# Altium schematic symbol library PowerSupply.SchLib: 41 symbols
Pins are listed as number, name and electrical type; pins without a type are passive.

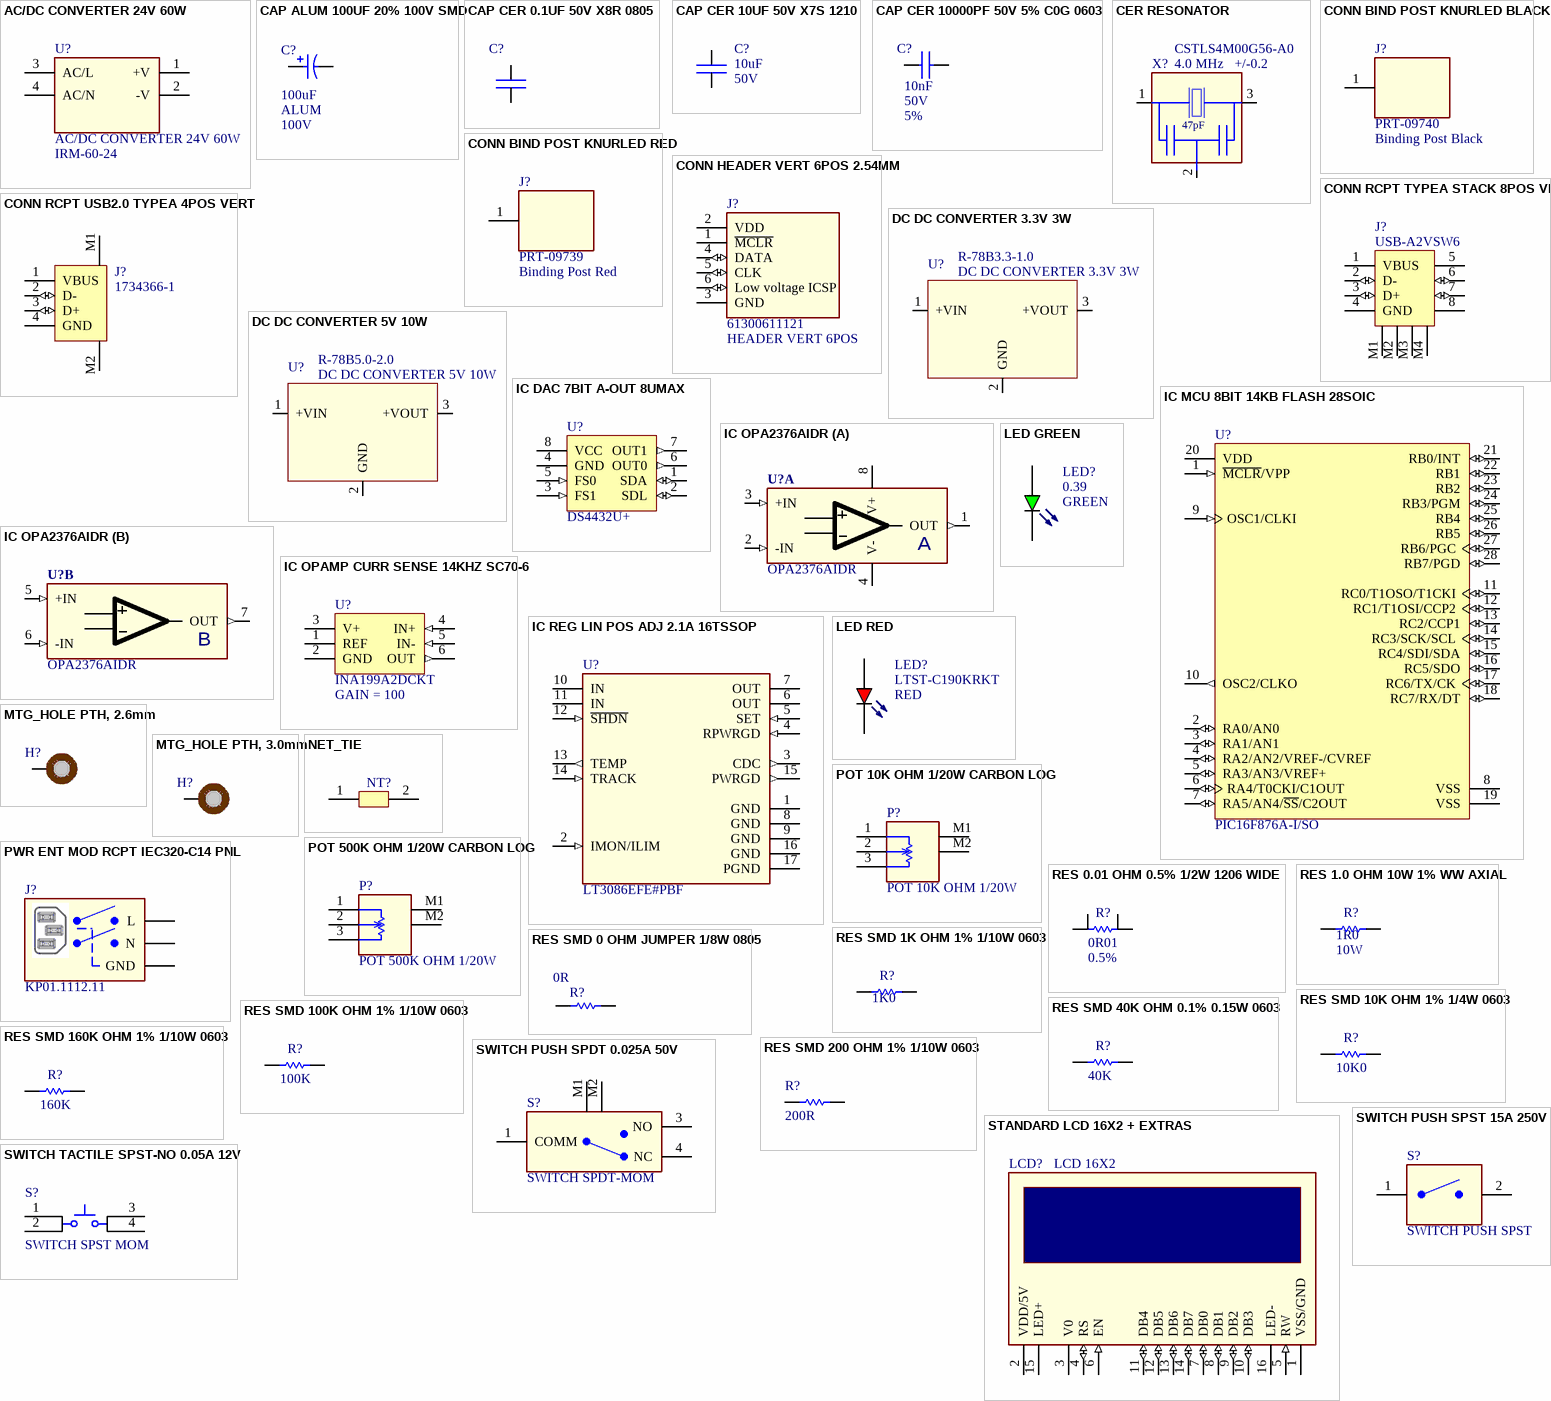
[diagram p0: symbols AC/DC CONVERTER 24V 60W to SWITCH TACTILE SPST-NO 0.05A 12V]

## AC/DC CONVERTER 24V 60W
designator U?  value AC/DC CONVERTER 24V 60W  MFG_PART_NO: IRM-60-24
AC/DC CONVERTER 24V 60W; MFG: MEAN WELL USA Inc.; COST: 24.76
footprint IRM6024
pins: 1 +V (power), 2 -V (power), 3 AC/L (power), 4 AC/N (power)

## CAP ALUM 100UF 20% 100V SMD
designator C?  value 100uF  DIELECTRIC: ALUM  VOLTAGE: 100V
CAP ALUM 100UF 20% 100V SMD; MFG_PART_NO: EMVY101ARA101MKE0S; MFG: United Chemi-Con; COST: 2.51; TOLERANCE: 20%
footprint CAPAE1300X1400N (Capacitor,Aluminum Electrolytic;13.00mm L X 13.00mm W X 14.00mm H)
pins: 1, 2

## CAP CER 0.1UF 50V X8R 0805
designator C?
CAP CER 0.1UF 50V X8R 0805; MFG_PART_NO: C2012X8R1H104K125AA; MFG: TDK; COST: 0.32; VALUE: 0.1uF; VOLTAGE: 50V
footprint 0805 Capacitor (Chip Capacitor, 2-Leads, Body 2.00x1.25mm, IPC Medium Density)
footprint CAPC2012X14N
pins: 1, 2

## CAP CER 10UF 50V X7S 1210
designator C?  value 10uF  VOLTAGE: 50V
CAP CER 10UF 50V X7S 1210; MFG_PART_NO: UMK325C7106MM-T; MFG: Taiyo Yuden; TOLERANCE: 20%; COST: 1.14; DIELECTRIC: X7S
footprint CAPC3225X28N (1210, Body 3.20x2.50x2.8mm, IPC Medium Density)
pins: 1, 2

## CAP CER 10000PF 50V 5% C0G 0603
designator C?  value 10nF  TOLERANCE: 5%  VOLTAGE: 50V
CAP CER 10000PF 50V 5% C0G 0603; MFG_PART_NO: GRM1885C1H103JA01D; MFG: Murata; DIELECTRIC: C0G/NP0; COST: 0.3
footprint CAPC1608X09N (0603, Body 1.6x0.8x0.94mm, IPC Medium Density)
pins: 1, 2

## CER RESONATOR
designator X?  value 4.0 MHz  MFG_PART_NO: CSTLS4M00G56-A0  STABILITY: +/-0.2
CER RESONATOR; TOLERANCE: +/-0.5; COST: 0.34; MFG: CER RESONATOR
footprint CSTLS4M00G56-A0
pins: 1, 2, 3
text: 47pF

## CONN BIND POST KNURLED BLACK
designator J?  value Binding Post Black  MFG_PART_NO: PRT-09740
CONN BIND POST KNURLED BLACK; MFG: SparkFun Electronics; COST: 0.49
footprint PRT-09740 (Binding Post Black)
pins: 1 (power)

## CONN BIND POST KNURLED RED
designator J?  value Binding Post Red  MFG_PART_NO: PRT-09739
CONN BIND POST KNURLED RED; MFG: SparkFun Electronics; COST: 0.49
footprint PRT-09739 (Binding Post Red)
pins: 1 (power)

## CONN HEADER VERT 6POS 2.54MM
designator J?  value HEADER VERT 6POS  MFG_PART_NO: 61300611121
CONN HEADER VERT 6POS 2.54MM; MFG: Wurth Electronics Inc.; COST: 0.47
footprint 61300611121
pins: 1 ~{MCLR} (power), 2 VDD (power), 3 GND (power), 4 DATA (io), 5 CLK (io), 6 Low voltage ICSP (io)

## CONN RCPT TYPEA STACK 8POS VERT
designator J?  value USB-A2VSW6
CONN RCPT TYPEA STACK 8POS VERT; MFG: On Shore Technology Inc.; MFG_PART_NO: USB-A2VSW6; COST: 1.29
footprint USB-A2VSW6 (USB - A, Stacked Receptacle Connector 8 Position Through Hole)
pins: 1 VBUS (power), 2 D- (io), 3 D+ (io), 4 GND (power), 5 VBUS (power), 6 D- (io), 7 D+ (io), 8 GND (power), M1, M2, M3, M4

## CONN RCPT USB2.0 TYPEA 4POS VERT
designator J?  value 1734366-1
CONN RCPT USB2.0 TYPEA 4POS VERT; MFG: TE Connectivity AMP Connectors; MFG_PART_NO: 1734366-1; COST: 1.26
footprint CONN_CUI_UJ2-AV-x-SMT (USB type A; vertical,4 pin, SMT)
pins: 1 VBUS (power), 2 D- (io), 3 D+ (io), 4 GND (power), M1, M2

## DC DC CONVERTER 3.3V 3W
designator U?  value DC DC CONVERTER 3.3V 3W  MFG_PART_NO: R-78B3.3-1.0
DC DC CONVERTER 3.3V 3W; MFG: Recom Power; COST: 12.72
footprint DC_Module_TH_R-78Bxx-1.0 (Recom, DC/DC Converter, 3-pin 2.54mm pitch)
pins: 1 +VIN (power), 2 GND (power), 3 +VOUT (power)

## DC DC CONVERTER 5V 10W
designator U?  value DC DC CONVERTER 5V 10W  MFG_PART_NO: R-78B5.0-2.0
DC DC CONVERTER 5V 10W; MFG: Recom Power; COST: 12.72
footprint DC_Module_TH_R-78Bxx-1.0 (Recom, DC/DC Converter, 3-pin 2.54mm pitch)
pins: 1 +VIN (power), 2 GND (power), 3 +VOUT (power)

## IC DAC 7BIT A-OUT 8UMAX
designator U?  value DS4432U+
IC DAC 7BIT A-OUT 8UMAX; MFG: Maxim Integrated; MFG_PART_NO: DS4432U+; COST: 1.82
footprint TSOP65P490X110-8N (TSOP, 8-Leads, Body 3.00x3.00mm, Pitch 0.65mm, IPC Medium Density)
pins: 1 SDA (io), 2 SDL (io), 3 FS1 (in), 4 GND (power), 5 FS0 (in), 6 OUT0 (out), 7 OUT1 (out), 8 VCC (power)

## IC MCU 8BIT 14KB FLASH 28SOIC
designator U?, comment PIC16F876A-I/SO
IC MCU 8BIT 14KB FLASH 28SOIC; MFG: Microchip Technology; COST: 4.67; MFG_PART_NO: PIC16F876A-I/SO; PACKAGE: 28-SOIC
footprint SOIC127P1030X264-28N (SOIC, 28-Leads, Body 17.88x7.46mm, Pitch 1.27mm, IPC Medium Density)
pins: 1 ~{MCLR}/VPP (in), 2 RA0/AN0 (io), 3 RA1/AN1 (io), 4 RA2/AN2/VREF-/CVREF (io), 5 RA3/AN3/VREF+ (io), 6 RA4/T0CKI/C1OUT (io), 7 RA5/AN4/~{SS}/C2OUT (io), 8 VSS (power), 9 OSC1/CLKI (in), 10 OSC2/CLKO (out), 11 RC0/T1OSO/T1CKI (io), 12 RC1/T1OSI/CCP2 (io), 13 RC2/CCP1 (io), 14 RC3/SCK/SCL (io), 15 RC4/SDI/SDA (io), 16 RC5/SDO (io), 17 RC6/TX/CK (io), 18 RC7/RX/DT (io), 19 VSS (power), 20 VDD (power), 21 RB0/INT (io), 22 RB1 (io), 23 RB2 (io), 24 RB3/PGM (io), 25 RB4 (io), 26 RB5 (io), 27 RB6/PGC (io), 28 RB7/PGD (io)

## IC OPA2376AIDR
designator U?  value OPA2376AIDR
IC OPAMP GP 5.5MHZ RRO 8SOIC; MFG: TI; COST: 3.82; MFG_PART_NO: OPA2376AIDR
footprint SOIC127P600X175-8N_OPA2376AIDR (SOIC, 8-Leads, Body 4.90x3.90mm, Pitch 1.27mm, IPC Medium Density)
part A pins: 1 OUT (out), 2 -IN (in), 3 +IN (in), 4 V- (power), 8 V+ (power)
part B pins: 5 +IN (in), 6 -IN (in), 7 OUT (out)
part A text: A
part B text: B

## IC OPAMP CURR SENSE 14KHZ SC70-6
designator U?  value INA199A2DCKT  GAIN: GAIN = 100
IC OPAMP CURR SENSE 14KHZ SC70-6; MFG: TE Connectivity AMP Connectors; MFG_PART_NO: INA199A2DCKT; COST: 1.29
footprint TSOP65P240X110-6N (TSOP, 6-Leads, Body 2.15x1.40mm, Pitch 0.65mm, IPC Medium Density)
pins: 1 REF (power), 2 GND (power), 3 V+ (power), 4 IN+ (in), 5 IN- (in), 6 OUT (out)

## IC REG LIN POS ADJ 2.1A 16TSSOP
designator U?  value LT3086EFE#PBF
IC REG LIN POS ADJ 2.1A 16TSSOP; MFG: Linear Technology/Analog Devices; COST: 24.76; MFG_PART_NO: LT3086EFE#PBF
footprint TSOP65P640X110_HS-17N (TSOP, 16-Leads, Body 5.00x4.40mm, Pitch 0.65mm, Thermal Pad 3.58x2.94mm, IPC Medium Density)
pins: 1 GND (power), 2 IMON/ILIM (in), 3 CDC (out), 4 RPWRGD (in), 5 SET (in), 6 OUT (power), 7 OUT (power), 8 GND (power), 9 GND (power), 10 IN (power), 11 IN (power), 12 ~{SHDN} (in), 13 TEMP (out), 14 TRACK (in), 15 PWRGD (out), 16 GND (power), 17 PGND (power)

## LED GREEN
designator LED?  value GREEN  MFG_PART_NO: 0.39
LED SUPER GREEN CLEAR 0603 SMD; MFG: Lite-On; COST: 0.05
footprint LED LTST-C190KGKT
pins: A, K

## LED RED
designator LED?  value RED  MFG_PART_NO: LTST-C190KRKT
LED SUPER RED CLEAR 0603 SMD; MFG: Lite-On; COST: 0.39
footprint LED LTST-C190KRKT
pins: A, K

## MTG_HOLE PTH, 2.6mm
designator H?  (no BOM)
PTH, 2.6mm; VALUE: PTH_2.6MM
footprint MH_PTH_H2.6mmXP7.0mm (Plated Through Hole, 2.6mm hole x 7.0mm pad)
pins: 1

## MTG_HOLE PTH, 3.0mm
designator H?  (no BOM)
PTH, 3.0mm; VALUE: PTH_3.0MM
footprint MH_PTH_H3.0mmXP6.0mm (Plated Through Hole, 3.0mm hole x 6.0mm pad)
pins: 1

## NET_TIE
designator NT?  (net tie, no BOM)
Net Tie
footprint NET_TIE_1x2mm (Footprint not found)
footprint NET_TIE_5x10mil (Net Tie 2 5x5mil Pads)
pins: 1, 2

## POT 10K OHM 1/20W CARBON LOG
designator P?  value POT 10K OHM 1/20W
POT 10K OHM 1/20W CARBON LOG; MFG_PART_NO: PTV09A-4020F-A103; MFG: Bourns Inc.; COST: 1.17
footprint PTV09A (POT 10K/500K)
pins: 1, 2, 3, M1 (power), M2 (power)

## POT 500K OHM 1/20W CARBON LOG
designator P?  value POT 500K OHM 1/20W
POT 500K OHM 1/20W CARBON LOG; MFG_PART_NO: PTV09A-4020F-A504; MFG: Bourns Inc.; COST: 1.17
footprint PTV09A (POT 10K/500K)
pins: 1, 2, 3, M1 (power), M2 (power)

## PWR ENT MOD RCPT IEC320-C14 PNL
designator J?  MFG_PART_NO: KP01.1112.11
PWR ENT MOD RCPT IEC320-C14 PNL; MFG: Schurter Inc.; VALUE: Power Entry Connector; COST: 21.59
footprint KP01.1112.11 (PWR ENT MOD RCPT IEC320-C14 PNL)
pins: GND (power), L (power), N (power)

## RES 0.01 OHM 0.5% 1/2W 1206 WIDE
designator R?  value 0R01  TOLERANCE: 0.5%
RES 0.01 OHM 0.5% 1/2W 1206 WIDE; MFG_PART_NO: FC4TR010DER; MFG: Ohmite; COST: 1.19
footprint FC4TR010DER (1206 WIDE)
pins: 1, 2, 3, 4

## RES 1.0 OHM 10W 1% WW AXIAL
designator R?  value 1R0  Power: 10W
RES 1.0 OHM 10W 1% WW AXIAL; MFG_PART_NO: RS0101R000FE73; MFG: Vishay Dale; COST: 4.05; TOLERANCE: 1%
footprint RESC1608X06N (0603, Body 1.5x0.8x0.55mm, IPC Medium Density)
pins: 1, 2

## RES SMD 0 OHM JUMPER 1/8W 0805
designator R?  value 0R
RES SMD 0 OHM JUMPER 1/8W 0805; MFG_PART_NO: ERJ-6GEY0R00V; MFG: Panasonic; COST: 0.15
footprint RESC2012X07N (0805, Body 2.0x1.3x0.7mm, IPC Medium Density)
pins: 1, 2

## RES SMD 1K OHM 1% 1/10W 0603
designator R?  value 1K0
RES SMD 1K OHM 1% 1/10W 0603; MFG_PART_NO: RMCF0603FT1K00; MFG: Stackpole; COST: 0.15; TOLERANCE: 1%
footprint RESC1608X06N (0603, Body 1.5x0.8x0.55mm, IPC Medium Density)
pins: 1, 2

## RES SMD 10K OHM 1% 1/4W 0603
designator R?  value 10K0
RES SMD 10K OHM 1% 1/4W 0603; MFG_PART_NO: ESR03EZPF1002; MFG: Rohm; COST: 0.2; TOLERANCE: 1%
footprint RESC1608X06N (0603, Body 1.5x0.8x0.55mm, IPC Medium Density)
pins: 1, 2

## RES SMD 40K OHM 0.1% 0.15W 0603
designator R?  value 40K
RES SMD 40K OHM 0.1% 0.15W 0603; MFG_PART_NO: PAT0603E4002BST1; MFG: Vishay Thin Film; COST: 1.46; TOLERANCE: 0.1%
footprint RESC1608X06N (0603, Body 1.5x0.8x0.55mm, IPC Medium Density)
pins: 1, 2

## RES SMD 100K OHM 1% 1/10W 0603
designator R?  value 100K
RES SMD 100K OHM 1% 1/10W 0603; MFG_PART_NO: ERJ-3EKF1003V; MFG: Panasonic; COST: 0.15; TOLERANCE: 1%
footprint RESC1608X06N (0603, Body 1.5x0.8x0.55mm, IPC Medium Density)
pins: 1, 2

## RES SMD 160K OHM 1% 1/10W 0603
designator R?  value 160K
RES SMD 160K OHM 1% 1/10W 0603; MFG_PART_NO: RC0603FR-07160KL; MFG: Yageo; COST: 0.15; TOLERANCE: 1%
footprint RESC1608X06N (0603, Body 1.5x0.8x0.55mm, IPC Medium Density)
pins: 1, 2

## RES SMD 200 OHM 1% 1/10W 0603
designator R?  value 200R
RES SMD 200 OHM 1% 1/10W 0603; MFG_PART_NO: RC0603FR-07200RL; MFG: Yageo; POWER: 0.1W; COST: 0.15
footprint RESC1608X06N (0603, Body 1.5x0.8x0.55mm, IPC Medium Density)
pins: 1, 2

## STANDARD LCD 16X2 + EXTRAS
designator LCD?  value LCD 16X2
STANDARD LCD 16X2 + EXTRAS; MFG_PART_NO: 181; MFG: Adafruit Industries LLC; COST: 14.07
footprint LCD_16pin
pins: 1 VSS/GND (power), 2 VDD/5V (power), 3 V0 (power), 4 RS (io), 5 RW (in), 6 EN (in), 7 DB0 (io), 8 DB1 (io), 9 DB2 (io), 10 DB3 (io), 11 DB4 (io), 12 DB5 (io), 13 DB6 (io), 14 DB7 (io), 15 LED+ (power), 16 LED- (power)

## SWITCH PUSH SPDT 0.025A 50V
designator S?  value SWITCH SPDT-MOM
SWITCH PUSH SPDT 0.025A 50V; MFG_PART_NO: KS12R22CQD; MFG: C&K; COST: 3.58
footprint KS12R22CQD
pins: 1 COMM, 3 NO, 4 NC, M1 (power), M2 (power)

## SWITCH PUSH SPST 15A 250V
designator S?  value SWITCH PUSH SPST
SWITCH PUSH SPST 15A 250V; MFG_PART_NO: PB1973ABLKBLKEF0; MFG: E-Switch; COST: 2.59
footprint PB1973ABLKBLKEF0 (SWITCH PUSH SPST 15A 250V)
pins: 1 (power), 2 (power)

## SWITCH TACTILE SPST-NO 0.05A 12V
designator S?  value SWITCH SPST MOM
SWITCH TACTILE SPST-NO 0.05A 12V; MFG_PART_NO: PTS645SM43SMTR92 LFS; MFG: C&K; COST: 0.24; VOLTAGE: 12V; CURRENT: 0.05A
footprint PTS645SM43SMTR92LFS
pins: 1, 2, 3, 4

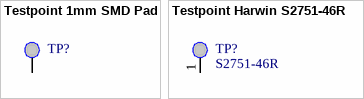
[diagram p1: symbols Testpoint 1mm SMD Pad to Testpoint Harwin S2751-46R]

## Testpoint 1mm SMD Pad
designator TP?  (no BOM)
Testpoint 1.0mm SMD Pad; VALUE: TP_SMD_1.0MM; ROHS: Y; STATUS: CHECKED
footprint TP_SMD_1.0MM
pins: 1

## Testpoint Harwin S2751-46R
designator TP?  value S2751-46R
PC TEST POINT TIN SMD; MFG: Harwin Inc.; MFG_PART_NO: S2751-46R; COST: 0.12320
footprint TP_HARWIN_2751-46R (SMD Test Point)
pins: 1